# Altium schematic symbol library UltiSID.SCHLIB: 55 symbols
Pins are listed as number, name and electrical type; pins without a type are passive.

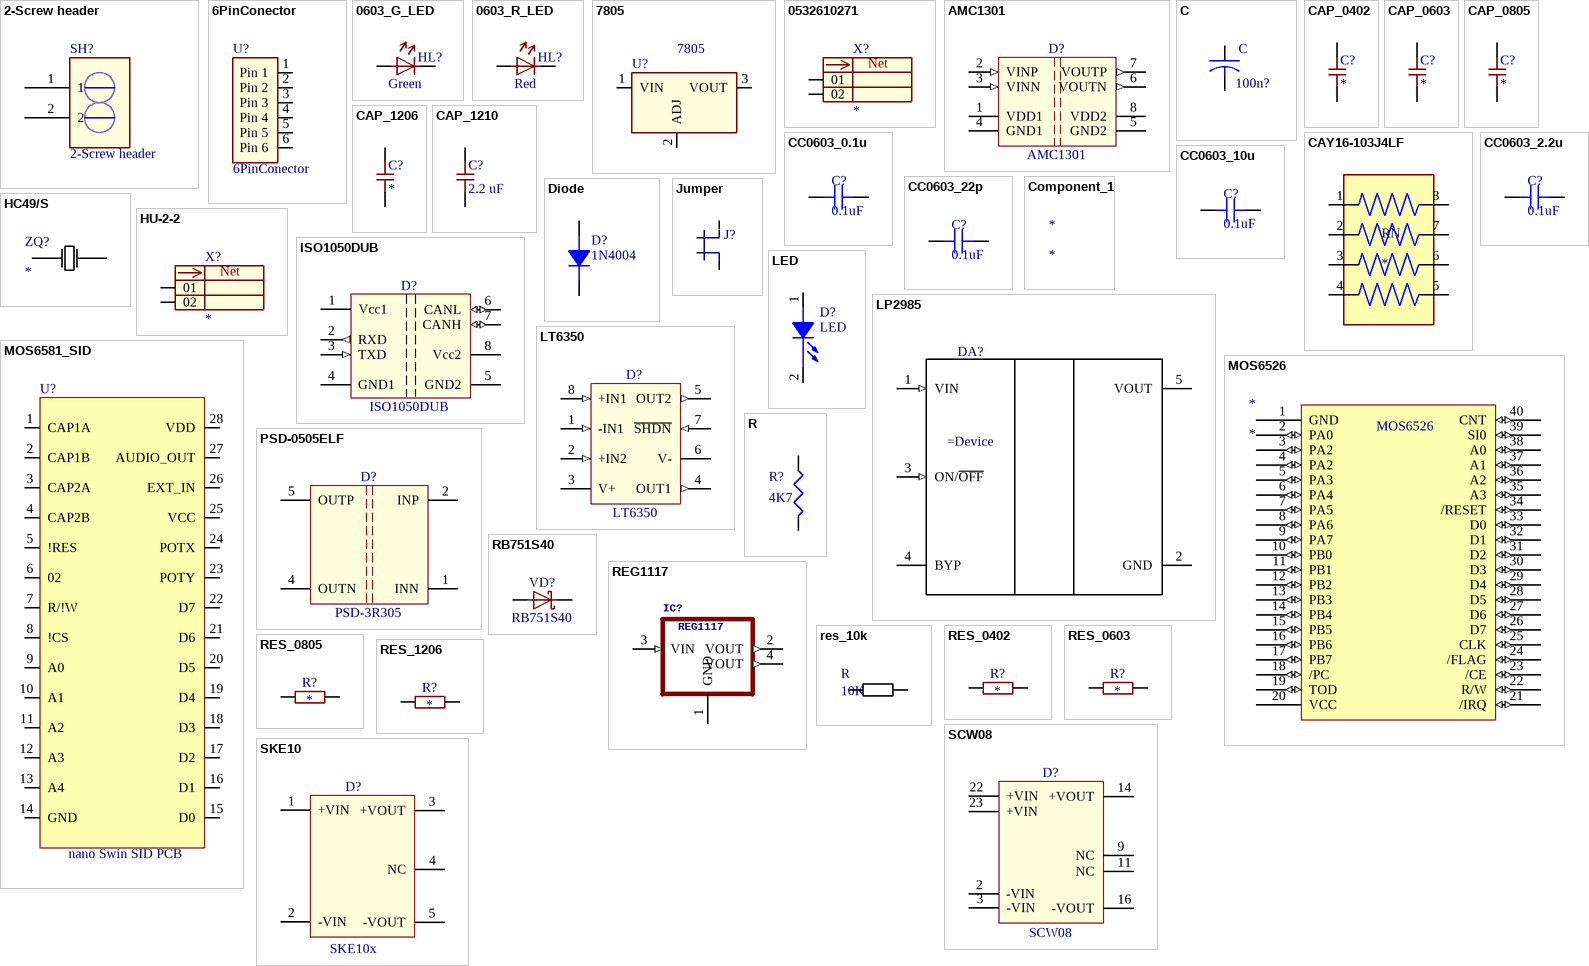
[diagram p0: symbols 2-Screw header to SKE10]

## 2-Screw header
designator SH?
footprint 2-SCREW HEADER
pins: 1, 2

## 6PinConector
designator U?
footprint 6-PIN HEADER
footprint 6-PIN HEADER small 1.27mm
pins: 1 Pin 1, 2 Pin 2, 3 Pin 3, 4 Pin 4, 5 Pin 5, 6 Pin 6

## 0603_G_LED
designator HL?, comment value Green  (hidden comment: LED Green 0603)
Manufacturer: Kingbright; Part Number: KP-1608CGCK; Package: 0603; Unit Price: *; Parameters: Green
footprint D-0603-G (Chip Diod, Body 1.6x0.8mm)
pins: 1 A, 2 K

## 0603_R_LED
designator HL?, comment value Red  (hidden comment: LED Red 0603)
Manufacturer: Kingbright; Part Number: KPT-1608SURC; Parameters: Green; Package: 0603; Unit Price: *
footprint D-0603-R (Chip Diod, Body 1.6x0.8mm)
pins: 1 A, 2 K

## 7805
designator U?
pins: 1 VIN, 2 ADJ, 3 VOUT

## 0532610271
designator X?, comment Plug, 2-Pin  (value not drawn)
Connector Male 05326 series; Manufacturer: MOLEX; Part Number: 0532610271; Parameters: 2 pin male connector 1,25 mm pitch; Package: *; Unit Price: *; Value: *
footprint MOLEX_0532610271
pins: 1 01, 2 02
text: Net

## AMC1301
designator D?, comment value AMC1301  (hidden comment: Isolated OpAmp)
Manufacturer: TI; Part Number: AMC1301DWVR; Package: SO-8; Unit Price: 4; Parameters: *
footprint SOIC-8-127-800 - 1090 (Body 5.4x5.4mm)
pins: 1 VDD1 (power), 2 VINP (in), 3 VINN (in), 4 GND1 (power), 5 GND2 (power), 6 VOUTN (out), 7 VOUTP (out), 8 VDD2 (power)

## C
designator 100n?
footprint THROUGH HOLE - CAP (DISCOIDAL)
footprint SMD-0805 - R
footprint SMD-1206 - CAP
footprint SMD-0.45X0.45CM - CAP
footprint SMD-0.85X0.85CM - CAP
footprint SMD-1X1CM - CAP
footprint THROUGH HOLE - CAP (MEDIO)
footprint THROUGH HOLE - CAP (GRANDE)
footprint Model Name (Footprint not found)
footprint THROUGH HOLE - CAP (GRANDE II)
footprint THROUGH HOLE - CAP POL (mini)
pins: 1, 2

## CAP_0402
designator C?  (value not drawn)
Capacitor; Manufacturer: Yageo; Unit Price: *; Parameters: *; Package: 0402; Part Number: *; Tolerance: *; Value: *
footprint C-0402 (Chip Capacitor, Body 1.0x0.5mm)
pins: 1, 2

## CAP_0603
designator C?, comment CAP  (value not drawn)
Capacitor; Manufacturer: *; Unit Price: *; Parameters: *; Package: 0603; Part Number: *; Tolerance: *; Value: *
footprint C-0603 (Chip Capacitor, Body 1.6x0.8mm)
pins: 1, 2

## CAP_0805
designator C?, comment CAP  (value not drawn)
Capacitor; Manufacturer: *; Unit Price: *; Parameters: *; Package: 0805; Part Number: *; Tolerance: *; Value: *
footprint C-0805 (Chip Capacitor, Body 2.0x1.25mm)
pins: 1, 2

## CAP_1206
designator C?, comment CAP  (value not drawn)
Capacitor; Manufacturer: *; Unit Price: *; Parameters: *; Package: 1206; Part Number: *; Tolerance: *; Value: *
footprint C-1206 (Chip Capacitor, Body 3.2x1.6mm)
pins: 1, 2

## CAP_1210
designator C?, comment value 2.2 uF  (hidden comment: CAP)
Capacitor; Manufacturer: MuRata; Part Number: GRM32ER72A225KA35L; Parameters: X7R 10% 100 V; Tolerance: 10 %; Unit Price: *; Package: 1210
footprint C-1210 (Chip Capacitor, Body 3.2x2.5mm)
pins: 1, 2

## CAY16-103J4LF
designator RN
10k Ohm Â±5% 62.5mW Power Per Element Isolated Resistor Network/Array Â±200ppm/Â°C 1206 (3216 Metric), Convex, Long Side Terminals; MP: CAY16-103J4LF; MF: Bourns; Value: *; Arrow_Electronics-Purchase-URL: https://snapeda.com/shop?store=Arrow+Electronics&id=47136; SnapEDA_Link: https://www.snapeda.com/parts/CAY16-103J4LF/Bourns%20-%20J.W.%20Miller/view-part/47136/?ref=snap; Price: None; Mouser-Purchase-URL: https://snapeda.com/shop?store=Mouser&id=47136; Package: 1206 Bourns; DigiKey-Purchase-URL: https://snapeda.com/shop?store=DigiKey&id=47136; Availability: Good
footprint RESCAF80P320X160X60-8N
pins: 1, 2, 3, 4, 5, 6, 7, 8

## CC0603_0.1u
designator C?, comment 0.1uF
SMT Capacitor; Value: 0.1uF
footprint CAP 0603/1608 (Chip Capacitor, 2-Leads, Body 1.60x0.80mm, IPC Medium Density)
pins: 1, 2

## CC0603_2.2u
designator C?, comment 0.1uF
SMT Capacitor; Value: 0.1uF
footprint CAP 0603/1608 (Chip Capacitor, 2-Leads, Body 1.60x0.80mm, IPC Medium Density)
pins: 1, 2

## CC0603_10u
designator C?, comment 0.1uF
SMT Capacitor; Value: 0.1uF
footprint CAP 0603/1608 (Chip Capacitor, 2-Leads, Body 1.60x0.80mm, IPC Medium Density)
pins: 1, 2

## CC0603_22p
designator C?, comment 0.1uF
SMT Capacitor; Value: 0.1uF
footprint CAP 0603/1608 (Chip Capacitor, 2-Leads, Body 1.60x0.80mm, IPC Medium Density)
pins: 1, 2

## Component_1
designator *

## Diode
designator D?, comment 1N4004
footprint THROUGH HOLE - DIODE
footprint THROUGH HOLE - DIODE BIG
pins: 1 Anode, 2 Katode

## HC49/S
designator ZQ?
Crystal Oscillator
footprint HS49/S
pins: 1, 2

## HU-2-2
designator X?, comment Plug, 2-Pin  (value not drawn)
Connector Male HU-2 series; Manufacturer: CONNFLY; Parameters: 2 pin male connector 2.54 mm pitch; Package: *; Unit Price: *; Value: *
footprint HU-2-M-R (Male, Body 11.6.0x5.2mm)
pins: 1 01, 2 02
text: Net

## ISO1050DUB
designator D?, comment value ISO1050DUB  (hidden comment: CAN Transceiver)
Isolated CAN; Manufacturer: TI; Parameters: 2,5 kV iso CAN transceiver; Package: SO-8; Unit Price: *; Part Number: ISO1050DUB
footprint DIPS-8-254-1120 (DIP, 8-Leads, Body 7.6x12.8mm)
pins: 1 Vcc1 (power), 2 RXD (out), 3 TXD (in), 4 GND1 (power), 5 GND2 (power), 6 CANL (io), 7 CANH (io), 8 Vcc2 (power)

## Jumper
designator J?  (value not drawn)
footprint 2-PIN HEADER
footprint 2-PIN HEADER SMALL 1.27mm
footprint 2-PIN HEADER SMALL 2mm
pins: 1, 2

## LED
designator D?
footprint LED 5MM
footprint SMD-0805 - LED
pins: 1 ANODE, 2 CATHODE

## LP2985
designator DA?
150mA Low-Noise Low-Dropout Regulator Whit Shutdown
footprint SOT95P280X145-5N (SOT, 0.95mm pitch; 5 pin, 1.60mm W X 2.90mm L X 1.45mm H body, IPC Medium Density)
pins: 1 VIN (in), 2 GND (power), 3 ON/~{OFF} (in), 4 BYP, 5 VOUT (power)

## LT6350
designator D?, comment value LT6350  (hidden comment: Gate driver)
Single ended to diff conv; Manufacturer: LT/AD; Part Number: LT6350IMS8; Parameters: ADC driver; Package: MSOP; Unit Price: 0.63
footprint TSOP-8-65-490 (Body 3.0x3.0mm)
pins: 1 -IN1 (in) "Input N", 2 +IN2 (in) "Bias", 3 V+ (power) "VPP", 4 OUT1 (out) "Out 1", 5 OUT2 (out) "Out 2", 6 V- (power) "VSS", 7 ~{SHDN} (in) "SHDN", 8 +IN1 (in) "Input P"

## MOS6526
designator *
footprint 40P6 (DIP; 40 Leads; Row Spacing 15.24 mm; Pitch 2.54 mm)
pins: 1 GND (power), 2 PA0 (io), 3 PA2 (io), 4 PA2 (io), 5 PA3 (io), 6 PA4 (io), 7 PA5 (io), 8 PA6 (io), 9 PA7 (io), 10 PB0 (io), 11 PB1 (io), 12 PB2 (io), 13 PB3 (io), 14 PB4 (io), 15 PB5 (io), 16 PB6 (io), 17 PB7 (io), 18 /PC (io), 19 TOD (io), 20 VCC (power), 21 /IRQ (io), 22 R/W (io), 23 /CE (io), 24 /FLAG (io), 25 CLK (io), 26 D7 (io), 27 D6 (io), 28 D5 (io), 29 D4 (io), 30 D3 (io), 31 D2 (io), 32 D1 (io), 33 D0 (io), 34 /RESET (io), 35 A3 (io), 36 A2 (io), 37 A1 (io), 38 A0 (io), 39 SI0 (io), 40 CNT (io)

## MOS6581_SID
designator U?, comment nano Swin SID PCB
footprint DIP-28-AY-38192-SID (CerDIP, Window; 28 Leads; Row Spacing 15.24 mm; Pitch 2.54 mm)
pins: 1 CAP1A, 2 CAP1B, 3 CAP2A, 4 CAP2B, 5 !RES, 6 02, 7 R/!W, 8 !CS, 9 A0, 10 A1, 11 A2, 12 A3, 13 A4, 14 GND, 15 D0, 16 D1, 17 D2, 18 D3, 19 D4, 20 D5, 21 D6, 22 D7, 23 POTY, 24 POTX, 25 VCC, 26 EXT_IN, 27 AUDIO_OUT, 28 VDD

## PSD-0505ELF
designator D?, comment value PSD-3R305  (hidden comment: Transformer Regulator)
Transformer; Manufacturer: PEAK; Part Number: PSD-3R305ELF; Parameters: 1W; Package: SDIP-5; Unit Price: *
footprint DIPS-5-254-1120 (DIP, 5-Leads, Body 7.6x12.8mm)
pins: 1 INN (power), 2 INP (power), 3 NC hidden, 4 OUTN (power), 5 OUTP (power), 6 NC hidden, 7 NC hidden, 8 NC hidden

## R
designator R?, comment 4K7
footprint SMD-0805 - R
footprint THROUGH HOLE - R
footprint THROUGH HOLE - R JAPANEESE
pins: 1, 2

## RB751S40
designator VD?, comment value RB751S40  (hidden comment: Schottky Diode)
Manufacturer: ON; Part Number: RB751S40T1G; Parameters: 40V, 30 mA; Package: SOD-523; Unit Price: 0.006
footprint D-SOD523 (Diode, Body 1.2x0.8mm)
pins: 1 A, 2 K

## REG1117
designator IC?
800mA and 1A Low Dropout (LDO) Positive Regulator1.8V, 2.5V, 2.85V, 3.3V, 5V, and Adj; GateName_1: G$1; SymbolName_1: REG1118; POPULARITY: 49; LibraryName: Whizz; DeviceSetName: REG1117; MF: *; MPN: REG1117; OC_FARNELL: 1097566; OC_NEWARK: 14P6981
footprint SOT223
pins: 1 GND (power), 2 VOUT (out), 3 VIN (in), 4 VOUT (out)

## res_10k
designator R, comment 10K
footprint 0603
pins: 1, 2

## RES_0402
designator R?, comment Resistor  (value not drawn)
Manufacturer: *; Unit Price: *; Parameters: *; Package: *; Part Number: *; Tolerance: *; Value: *
footprint R-0402 (Chip Resistor, Body 1.0x0.5mm)
pins: 1, 2

## RES_0603
designator R?, comment Resistor  (value not drawn)
Manufacturer: *; Unit Price: *; Parameters: *; Package: *; Part Number: *; Tolerance: *; Value: *
footprint R-0603 (Chip Resistor, Body 1.6x0.8mm)
pins: 1, 2

## RES_0805
designator R?, comment Resistor  (value not drawn)
Manufacturer: *; Unit Price: *; Parameters: *; Package: *; Part Number: *; Tolerance: *; Value: *
footprint R-0805 (Chip Resistor, Body 2.0x1.25mm)
pins: 1, 2

## RES_1206
designator R?, comment Resistor  (value not drawn)
Manufacturer: *; Unit Price: *; Parameters: *; Package: *; Part Number: *; Tolerance: *; Value: *
footprint R-1206 (Chip Resistor, Body 3.2x1.6mm)
pins: 1, 2

## SCW08
designator D?, comment value SCW08  (hidden comment: DC/DC Regulator)
Reg DC/DC; Manufacturer: MW; Parameters: 8W; Package: 31.8x20x4mm; Unit Price: *; Part Number: SCW08; Parameter 1: *
footprint D-SCW (DC/DC module SCW series)
pins: 2 -VIN (power), 3 -VIN (power), 9 NC (power), 11 NC (power), 14 +VOUT (power), 16 -VOUT (power), 22 +VIN (power), 23 +VIN (power)

## SKE10
designator D?, comment value SKE10x  (hidden comment: DC/DC Regulator)
Reg DC/DC; Manufacturer: MW; Part Number: SKE10x-xx; Parameters: 10W; Package: 50.8x25x11mm; Unit Price: *; Parameter 1: *
footprint D-SKE (DIP, Body 50.8x25.3mm)
pins: 1 +VIN (power), 2 -VIN (power), 3 +VOUT (power), 4 NC (power), 5 -VOUT (power)

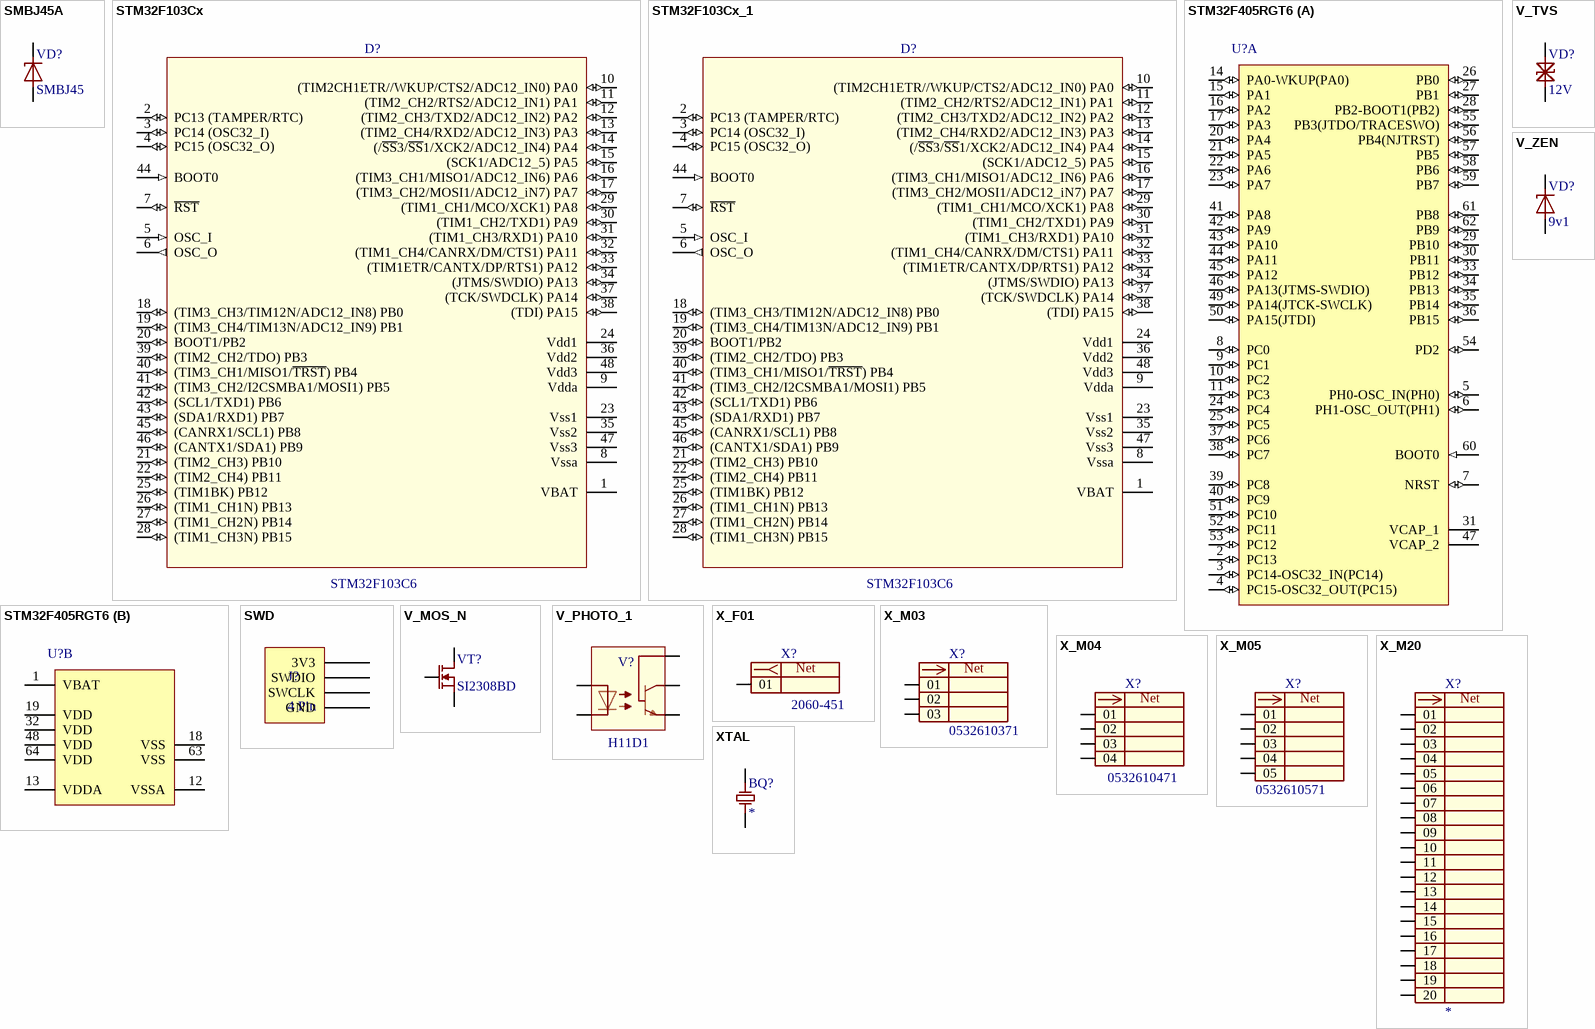
[diagram p1: symbols SMBJ45A to XTAL]

## SMBJ45A
designator VD?, comment value SMBJ45  (hidden comment: TVS Diode)
Manufacturer: LittelFuse; Part Number: SMBJ45A; Parameters: 600 W 50...55V/72 V; Package: SMB; Unit Price: *
footprint D-SMB (Diode, Body 4.6x4.0mm)
pins: 1 A, 2 K

## STM32F103Cx
designator D?, comment value STM32F103C6  (hidden comment: Microcontroller)
MC Cortex-M3; Manufacturer: ST; Part Number: STM32F103C6T6A; Parameters: 16-32K; Package: LQFP-48; Unit Price: *
footprint TQFP48_L (48-Pin Thin Quad Flat Pack 0.5 mm Pitch, IPC High Density)
pins: 1 VBAT (power), 2 PC13 (TAMPER/RTC) (io), 3 PC14 (OSC32_I) (io), 4 PC15 (OSC32_O) (io), 5 OSC_I (in), 6 OSC_O (out), 7 ~{RST} (io), 8 Vssa (power), 9 Vdda (power), 10 (TIM2CH1ETR//WKUP/CTS2/ADC12_IN0) PA0 (io), 11 (TIM2_CH2/RTS2/ADC12_IN1) PA1 (io), 12 (TIM2_CH3/TXD2/ADC12_IN2) PA2 (io), 13 (TIM2_CH4/RXD2/ADC12_IN3) PA3 (io), 14 (/~{SS}3/~{SS}1/XCK2/ADC12_IN4) PA4 (io), 15 (SCK1/ADC12_5) PA5 (io), 16 (TIM3_CH1/MISO1/ADC12_IN6) PA6 (io), 17 (TIM3_CH2/MOSI1/ADC12_iN7) PA7 (io), 18 (TIM3_CH3/TIM12N/ADC12_IN8) PB0 (io), 19 (TIM3_CH4/TIM13N/ADC12_IN9) PB1 (io), 20 BOOT1/PB2 (io), 21 (TIM2_CH3) PB10 (io), 22 (TIM2_CH4) PB11 (io), 23 Vss1 (power), 24 Vdd1 (power), 25 (TIM1BK) PB12 (io), 26 (TIM1_CH1N) PB13 (io), 27 (TIM1_CH2N) PB14 (io), 28 (TIM1_CH3N) PB15 (io), 29 (TIM1_CH1/MCO/XCK1) PA8 (io), 30 (TIM1_CH2/TXD1) PA9 (io), 31 (TIM1_CH3/RXD1) PA10 (io), 32 (TIM1_CH4/CANRX/DM/CTS1) PA11 (io), 33 (TIM1ETR/CANTX/DP/RTS1) PA12 (io), 34 (JTMS/SWDIO) PA13 (io), 35 Vss2 (power), 36 Vdd2 (power), 37 (TCK/SWDCLK) PA14 (io), 38 (TDI) PA15 (io), 39 (TIM2_CH2/TDO) PB3 (io), 40 (TIM3_CH1/MISO1/~{TRST}) PB4 (io), 41 (TIM3_CH2/I2CSMBA1/MOSI1) PB5 (io), 42 (SCL1/TXD1) PB6 (io), 43 (SDA1/RXD1) PB7 (io), 44 BOOT0 (in), 45 (CANRX1/SCL1) PB8 (io), 46 (CANTX1/SDA1) PB9 (io), 47 Vss3 (power), 48 Vdd3 (power)

## STM32F103Cx_1
designator D?, comment value STM32F103C6  (hidden comment: Microcontroller)
MC Cortex-M3; Manufacturer: ST; Part Number: STM32F103C6T6A; Parameters: 16-32K; Package: LQFP-48; Unit Price: *
footprint QFP-48-50-900 (Body 7.0x7.0mm)
pins: 1 VBAT (power), 2 PC13 (TAMPER/RTC) (io), 3 PC14 (OSC32_I) (io), 4 PC15 (OSC32_O) (io), 5 OSC_I (in), 6 OSC_O (out), 7 ~{RST} (io), 8 Vssa (power), 9 Vdda (power), 10 (TIM2CH1ETR//WKUP/CTS2/ADC12_IN0) PA0 (io), 11 (TIM2_CH2/RTS2/ADC12_IN1) PA1 (io), 12 (TIM2_CH3/TXD2/ADC12_IN2) PA2 (io), 13 (TIM2_CH4/RXD2/ADC12_IN3) PA3 (io), 14 (/~{SS}3/~{SS}1/XCK2/ADC12_IN4) PA4 (io), 15 (SCK1/ADC12_5) PA5 (io), 16 (TIM3_CH1/MISO1/ADC12_IN6) PA6 (io), 17 (TIM3_CH2/MOSI1/ADC12_iN7) PA7 (io), 18 (TIM3_CH3/TIM12N/ADC12_IN8) PB0 (io), 19 (TIM3_CH4/TIM13N/ADC12_IN9) PB1 (io), 20 BOOT1/PB2 (io), 21 (TIM2_CH3) PB10 (io), 22 (TIM2_CH4) PB11 (io), 23 Vss1 (power), 24 Vdd1 (power), 25 (TIM1BK) PB12 (io), 26 (TIM1_CH1N) PB13 (io), 27 (TIM1_CH2N) PB14 (io), 28 (TIM1_CH3N) PB15 (io), 29 (TIM1_CH1/MCO/XCK1) PA8 (io), 30 (TIM1_CH2/TXD1) PA9 (io), 31 (TIM1_CH3/RXD1) PA10 (io), 32 (TIM1_CH4/CANRX/DM/CTS1) PA11 (io), 33 (TIM1ETR/CANTX/DP/RTS1) PA12 (io), 34 (JTMS/SWDIO) PA13 (io), 35 Vss2 (power), 36 Vdd2 (power), 37 (TCK/SWDCLK) PA14 (io), 38 (TDI) PA15 (io), 39 (TIM2_CH2/TDO) PB3 (io), 40 (TIM3_CH1/MISO1/~{TRST}) PB4 (io), 41 (TIM3_CH2/I2CSMBA1/MOSI1) PB5 (io), 42 (SCL1/TXD1) PB6 (io), 43 (SDA1/RXD1) PB7 (io), 44 BOOT0 (in), 45 (CANRX1/SCL1) PB8 (io), 46 (CANTX1/SDA1) PB9 (io), 47 Vss3 (power), 48 Vdd3 (power)

## STM32F405RGT6
designator U?
ARM Cortex-M4 32-bit MCU+FPU, 210 DMIPS, 1024 kB Flash, 192 kB Internal RAM, 51 I/Os, 64-pin LQFP, -40 to 85 degC, Tray; Manufacturer: STMicroelectronics; PartNumber: STM32F405RGT6; D/A Converter: 2x12-bit; FLASH Size (Prog) (kB): 1024; I/Os (High Current): 51; Internal RAM Size (kB): 192; Operating Frequency(F) (Processor speed) (MHz): 168; Supply Voltage(Vcc) max (V): 3.6; Supply Voltage(Vcc) min (V): 1.8; DatasheetVersion: Rev. 4; PackageVersion: Rev. 4, 06/2013; PackageReference: LQFP64; PackageDescription: 64-Pin Low Profile Quad Flat Package, 10 x 10 mm Body, 0.5 mm Pitch; Supplier 1: Digi-Key; Supplier Part Number 1: 497-11767-ND; Supplier 2: Farnell; Supplier Part Number 2: 2064363; Supplier 3: Newark; Supplier Part Number 3: 73T2329; Supplier 4: Mouser; Supplier Part Number 4: 511-STM32F405RGT6; Core: ARM Cortex-M4; Packing: Tray; Mounting Technology: Surface Mount; ComponentLink1Description: Manufacturer URL; ComponentLink1URL: http://www.st.com/web/en/home.html; ComponentLink2Description: Datasheet; ComponentLink2URL: http://www.st.com/st-web-ui/static/active/en/resource/technical/document/datasheet/DM00037051.pdf; ComponentLink3Description: Package Specification; ComponentLink3URL: http://www.st.com/st-web-ui/static/active/en/resource/technical/document/datasheet/DM00037051.pdf
footprint STM-LQFP64_N (Thin QFP, 64-Leads, Body 10x10mm, Pitch 0.5mm, IPC Medium Density)
footprint STM-LQFP64_L (Thin QFP, 64-Leads, Body 10x10mm, Pitch 0.5mm, IPC High Density)
footprint STM-LQFP64_M (Thin QFP, 64-Leads, Body 10x10mm, Pitch 0.5mm, IPC Low Density)
footprint STM-LQFP64_V (Thin QFP, 64-Leads, Body 10x10mm, Pitch 0.5mm, ST Recommended)
part A pins: 2 PC13 (io) "PC13/EVENTOUT/RTC_OUT,RTC_TAMP1,RTC_TS", 3 PC14-OSC32_IN(PC14) (io) "PC14-OSC32_IN(PC14)/EVENTOUT/OSC32_IN", 4 PC15-OSC32_OUT(PC15) (io) "PC15-OSC32_OUT(PC15)/EVENTOUT/OSC32_OUT", 5 PH0-OSC_IN(PH0) (io) "PH0-OSC_IN(PH0)/EVENTOUT/OSC_IN", 6 PH1-OSC_OUT(PH1) (io) "PH1-OSC_OUT(PH1)/EVENTOUT/OSC_OUT", 7 NRST (io), 8 PC0 (io) "PC0/OTG_HS_ULPI_STP/EVENTOUT/ADC123_IN10", 9 PC1 (io) "PC1/ETH_MDC/EVENTOUT/ADC123_IN11", 10 PC2 (io) "PC2/SPI2_MISO/OTG_HS_ULPI_DIR/ETH_MII_TXD2/I2S2ext_SD/EVENTOUT/ADC123_IN12", 11 PC3 (io) "PC3/SPI2_MOSI/I2S2_SD/OTG_HS_ULPI_NXT/ETH_MII_TX_CLK/EVENTOUT/ADC123_IN13", 14 PA0-WKUP(PA0) (io) "PA0-WKUP(PA0)/USART2_CTS/UART4_TX/ETH_MII_CRS/TIM2_CH1_ETR/TIM5_CH1/TIM8_ETR/EVENTOUT/ADC123_IN0/WKUP", 15 PA1 (io) "PA1/USART2_RTS/UART4_RX/ETH_RMII_REF_CLK/ETH_MII_RX_CLK/TIM5_CH2/TIM2_CH2/EVENTOUT/ADC123_IN1", 16 PA2 (io) "PA2/USART2_TX/TIM5_CH3/TIM9_CH1/TIM2_CH3/ETH_MDIO/EVENTOUT/ADC123_IN2", 17 PA3 (io) "PA3/USART2_RX/TIM5_CH4/TIM9_CH2/TIM2_CH4/OTG_HS_ULPI_D0/ETH_MII_COL/EVENTOUT/ADC123_IN3", 20 PA4 (io) "PA4/SPI1_NSS/SPI3_NSS/USART2_CK/DCMI_HSYNC/OTG_HS_SOF/I2S3_WS/EVENTOUT/ADC12_IN4/DAC_OUT1", 21 PA5 (io) "PA5/SPI1_SCK/OTG_HS_ULPI_CK/TIM2_CH1_ETR/TIM8_CH1N/EVENTOUT/ADC12_IN5/DAC_OUT2", 22 PA6 (io) "PA6/SPI1_MISO/TIM8_BKIN/TIM13_CH1/DCMI_PIXCLK/TIM3_CH1/TIM1_BKIN/EVENTOUT/ADC12_IN6", 23 PA7 (io) "PA7/SPI1_MOSI/TIM8_CH1N/TIM14_CH1/TIM3_CH2/ETH_MII_RX_DV/TIM1_CH1N/ETH_RMII_CRS_DV/EVENTOUT/ADC12_IN7", 24 PC4 (io) "PC4/ETH_RMII_RX_D0/ETH_MII_RX_D0/EVENTOUT/ADC12_IN14", 25 PC5 (io) "PC5/ETH_RMII_RX_D1/ETH_MII_RX_D1/EVENTOUT/ADC12_IN15", 26 PB0 (io) "PB0/TIM3_CH3/TIM8_CH2N/OTG_HS_ULPI_D1/ETH_MII_RXD2/TIM1_CH2N/EVENTOUT/ADC12_IN8", 27 PB1 (io) "PB1/TIM3_CH4/TIM8_CH3N/OTG_HS_ULPI_D2/ETH_MII_RXD3/TIM1_CH3N/EVENTOUT/ADC12_IN9", 28 PB2-BOOT1(PB2) (io) "PB2-BOOT1(PB2)/EVENTOUT", 29 PB10 (io) "PB10/SPI2_SCK/I2S2_CK/I2C2_SCL/USART3_TX/OTG_HS_ULPI_D3/ETH_MII_RX_ER/TIM2_CH3/EVENTOUT", 30 PB11 (io) "PB11/I2C2_SDA/USART3_RX/OTG_HS_ULPI_D4/ETH_RMII_TX_EN/ETH_MII_TX_EN/TIM2_CH4/EVENTOUT", 31 VCAP_1 (power), 33 PB12 (io) "PB12/SPI2_NSS/I2S2_WS/I2C2_SMBA/USART3_CK/TIM1_BKIN/CAN2_RX/OTG_HS_ULPI_D5/ETH_RMII_TXD0/ETH_MII_TXD0/OTG_HS_ID/EVENTOUT", 34 PB13 (io) "PB13/SPI2_SCK/I2S2_CK/USART3_CTS/TIM1_CH1N/CAN2_TX/OTG_HS_ULPI_D6/ETH_RMII_TXD1/ETH_MII_TXD1/EVENTOUT/OTG_HS_VBUS", 35 PB14 (io) "PB14/SPI2_MISO/TIM1_CH2N/TIM12_CH1/OTG_HS_DM/USART3_RTS/TIM8_CH2N/I2S2ext_SD/EVENTOUT", 36 PB15 (io) "PB15/SPI2_MOSI/I2S2_SD/TIM1_CH3N/TIM8_CH3N/TIM12_CH2/OTG_HS_DP/EVENTOUT/RTC_REFIN", 37 PC6 (io) "PC6/I2S2_MCK/TIM8_CH1/SDIO_D6/USART6_TX/DCMI_D0/TIM3_CH1/EVENTOUT", 38 PC7 (io) "PC7/I2S3_MCK/TIM8_CH2/SDIO_D7/USART6_RX/DCMI_D1/TIM3_CH2/EVENTOUT", 39 PC8 (io) "PC8/TIM8_CH3/SDIO_D0/TIM3_CH3/USART6_CK/DCMI_D2/EVENTOUT", 40 PC9 (io) "PC9/I2S_CKIN/MCO2/TIM8_CH4/SDIO_D1/I2C3_SDA/DCMI_D3/TIM3_CH4/EVENTOUT", 41 PA8 (io) "PA8/MCO1/USART1_CK/TIM1_CH1/I2C3_SCL/OTG_FS_SOF/EVENTOUT", 42 PA9 (io) "PA9/USART1_TX/TIM1_CH2/I2C3_SMBA/DCMI_D0/EVENTOUT/OTG_FS_VBUS", 43 PA10 (io) "PA10/USART1_RX/TIM1_CH3/OTG_FS_ID/DCMI_D1/EVENTOUT", 44 PA11 (io) "PA11/USART1_CTS/CAN1_RX/TIM1_CH4/OTG_FS_DM/EVENTOUT", 45 PA12 (io) "PA12/USART1_RTS/CAN1_TX/TIM1_ETR/OTG_FS_DP/EVENTOUT", 46 PA13(JTMS-SWDIO) (io) "PA13(JTMS-SWDIO)/JTMS-SWDIO/EVENTOUT", 47 VCAP_2 (power), 49 PA14(JTCK-SWCLK) (io) "PA14(JTCK-SWCLK)/JTCK-SWCLK/EVENTOUT", 50 PA15(JTDI) (io) "PA15(JTDI)/JTDI/SPI3_NSS/I2S3_WS/TIM2_CH1_ETR/SPI1_NSS/EVENTOUT", 51 PC10 (io) "PC10/SPI3_SCK/I2S3_CK/UART4_TX/SDIO_D2/DCMI_D8/USART3_TX/EVENTOUT", 52 PC11 (io) "PC11/UART4_RX/SPI3_MISO/SDIO_D3/DCMI_D4/USART3_RX/I2S3ext_SD/EVENTOUT", 53 PC12 (io) "PC12/UART5_TX/SDIO_CK/DCMI_D9/SPI3_MOSI/I2S3_SD/USART3_CK/EVENTOUT", 54 PD2 (io) "PD2/TIM3_ETR/UART5_RX/SDIO_CMD/DCMI_D11/EVENTOUT", 55 PB3(JTDO/TRACESWO) (io) "PB3(JTDO/TRACESWO)/JTDO/TRACESWO/SPI3_SCK/I2S3_CK/TIM2_CH2/SPI1_SCK/EVENTOUT", 56 PB4(NJTRST) (io) "PB4(NJTRST)/NJTRST/SPI3_MISO/TIM3_CH1/SPI1_MISO/I2S3ext_SD/EVENTOUT", 57 PB5 (io) "PB5/I2C1_SMBA/CAN2_RX/OTG_HS_ULPI_D7/ETH_PPS_OUT/TIM3_CH2/SPI1_MOSI/SPI3_MOSI/DCMI_D10/I2S3_SD/EVENTOUT", 58 PB6 (io) "PB6/I2C1_SCL/TIM4_CH1/CAN2_TX/DCMI_D5/USART1_TX/EVENTOUT", 59 PB7 (io) "PB7/I2C1_SDA/FSMC_NL/DCMI_VSYNC/USART1_RX/TIM4_CH2/EVENTOUT", 60 BOOT0 (in) "BOOT0/VPP", 61 PB8 (io) "PB8/TIM4_CH3/SDIO_D4/TIM10_CH1/DCMI_D6/ETH_MII_TXD3/I2C1_SCL/CAN1_RX/EVENTOUT", 62 PB9 (io) "PB9/SPI2_NSS/I2S2_WS/TIM4_CH4/TIM11_CH1/SDIO_D5/DCMI_D7/I2C1_SDA/CAN1_TX/EVENTOUT"
part B pins: 1 VBAT (power), 12 VSSA (power), 13 VDDA (power), 18 VSS (power), 19 VDD (power), 32 VDD (power), 48 VDD (power), 63 VSS (power), 64 VDD (power)

## SWD
designator J?, comment 4 Pin
footprint 1X04
pins: 1 3V3, 2 SWDIO, 3 SWCLK, 4 GND

## V_MOS_N
designator VT?, comment value SI2308BD  (hidden comment: N-Channel MOSFET)
MOSFET-N; Manufacturer: VISHAY; Part Number: SI2308BDS-T1-GE3; Parameters: 60V 2.3A 1.1W; Unit Price: *; Package: SOT-23-3
footprint SOT23-3-95-300 (Body 1.6x2.9mm)
pins: 1 G, 2 S, 3 D

## V_PHOTO_1
designator V?  value H11D1  (hidden comment: V_PHOTO_1)
Photocoupler; Manufacturer: VISHAY; Parameters: 300V 5kV Opto; Unit Price: *; Package: DIP-6; Part Number: H11D1
footprint DIPS-6-254-940 (DIP, 6-Leads, Body 6.4x8.6mm)
pins: 1 A, 2 K, 4 E, 5 C, 6 C

## V_TVS
designator VD?, comment value 12V  (hidden comment: TVS Diode)
Manufacturer: Vishay; Part Number: SMBJ12C; Parameters: 1W; Package: SMB; Unit Price: *
footprint D-SMB (Diode, Body 4.6x4.0mm)
pins: 1 A, 2 K

## V_ZEN
designator VD?, comment value 9v1  (hidden comment: Zenner Diode)
Manufacturer: NXP; Part Number: BZV55-C9V1.115; Parameters: 9.1V 5mA 43 mA max; Package: MINIMELF; Unit Price: *
footprint D-SOD80 (Diode, Body 3.6x1.6mm)
pins: 1 A, 2 K

## X_F01
designator X?, comment value 2060-451  (hidden comment: 2060/451 Socket)
Connector Female; Manufacturer: WAGO; Part Number: 2060-451/998-404; Parameters: 2060-451 series conn; Package: *; Unit Price: *
footprint WAGO-2060-1 (SMD Terminal Strips with Push-Buttons, 4 mm pitch)
pins: 1 01
text: Net

## X_M03
designator X?, comment value 0532610371  (hidden comment: Plug, 3-Pin)
MOLEX_0532610371; Manufacturer: MOLEX; Package: *; Unit Price: *; Part Number: 0532610371; Parameters: *
footprint MOLEX_0532610371 (1.25mm PicoBlade PCB Header)
pins: 1 01, 2 02, 3 03
text: Net

## X_M04
designator X?, comment value 0532610471  (hidden comment: Plug, 4-Pin)
MOLEX_0532610471; Manufacturer: MOLEX; Package: *; Unit Price: *; Part Number: 0532610471; Parameters: *
footprint MOLEX_0532610471 (1.25mm PicoBlade PCB Header)
pins: 1 01, 2 02, 3 03, 4 04
text: Net

## X_M05
designator X?, comment value 0532610571  (hidden comment: Plug, 5-Pin)
Connector Male; Package: *; Unit Price: *; Manufacturer: *; Part Number: 0532610571; Parameters: *
footprint MOLEX_0532610571 (1.25mm PicoBlade PCB Header)
pins: 1 01, 2 02, 3 03, 4 04, 5 05
text: Net

## X_M20
designator X?, comment Plug, 20-Pin  (value not drawn)
Connector Male 2,54 mm; Package: *; Unit Price: *; Manufacturer: *; Part Number: *; Parameters: *; Value: *
footprint PBD-20-254-RA (Female, Body 8.5x25.4mm)
pins: 1 01, 2 02, 3 03, 4 04, 5 05, 6 06, 7 07, 8 08, 9 09, 10, 11, 12, 13, 14, 15, 16, 17, 18, 19, 20
1 alternate drawing of the same symbol
text: Net

## XTAL
designator BQ?  (value not drawn)
Crystal Oscillator; Manufacturer: NDK; Parameters: 8 MHz 8pF 50 ppm; Unit Price: *; Package: 3225; Part Number: *; Tolerance: *; Value: *
footprint XTAL3225 (XTAL, Body 3.2x2.5mm)
pins: 1, 2